# Altium footprint library Mosfet.PcbLib: 2 footprints
Each footprint in its own frame and in the unit in brackets; x right, y up, seen from the top. Pads: shape width x height; smd on the part's side, far side on the other; paste and mask are expansions set on the pad; w line width, h text height; cw(c..) or ccw(c..) is an arc to the next point about the centre after c.
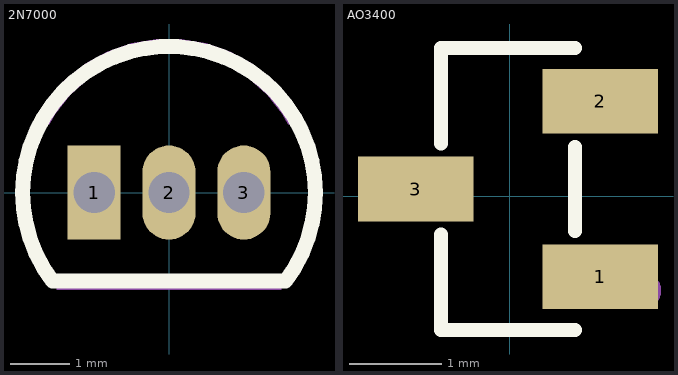
[diagram p0: the footprints below, top view; thin cyan lines are the x and y axes]

## 2N7000 [mm]
pads (3):
  rect 0.9x1.6 hole 0.7 paste-2539.97 mask+0.051: 1(-1.27,0)
  oval 0.9x1.6 hole 0.7 paste-2539.97 mask+0.051: 2(0,0) 3(1.27,0)
Top Overlay:
  lines w0.254: -1.981,-1.501 cw(c0,-0.003) 1.981,-1.501 ; -1.98,-1.5 1.98,-1.5
Mechanical 15:
  region: -2.29,1.16 -2.036,1.16 -1.931,1.339 -1.674,1.664 -1.363,1.938 -1.007,2.152 -0.619,2.299 -0.211,2.373 0.203,2.373 0.611,2.299 0.999,2.152 1.355,1.938 1.666,1.664 1.923,1.339 2.028,1.16 2.282,1.16 2.155,1.414 2.041,1.596 1.754,1.917 1.418,2.185 1.041,2.393 0.635,2.535 0.211,2.607 -0.219,2.607 -0.643,2.535 -1.049,2.393 -1.426,2.185 -1.762,1.917 -2.049,1.596 -2.163,1.414
  region: -1.905,-1.397 1.905,-1.397 1.905,-1.651 -1.905,-1.651
3D body "2N7000--3DModel-STEP-740395.STEP": height 4.78, standoff -12.32, extent -2.715,-1.575 2.765,2.025

## AO3400 [mm]
pads (3):
  rect 1.25x0.7 smd paste+0 mask+0.051: 1(0.98,-0.872) 2(0.98,1.028) 3(-1.02,0.078)
Top Overlay:
  lines w0.152: -0.746,-0.416 -0.746,-1.448 0.706,-1.448 ; -0.746,0.573 -0.746,1.605 0.706,1.605 ; 0.706,-0.377 0.706,0.534
Mechanical 15:
  circle w0.2: c1.44,-1.022 r0.1
3D body "SOT23-3.step": height 1.1, standoff 0, extent -1.275,-1.423 1.225,1.575